# EAGLE library part MM5450 (library opto)
MM5450: LED display driver (Micrel) 34 outputs, 15mA max, static display (non-multiplexed) Serial data input (3-wire interface)
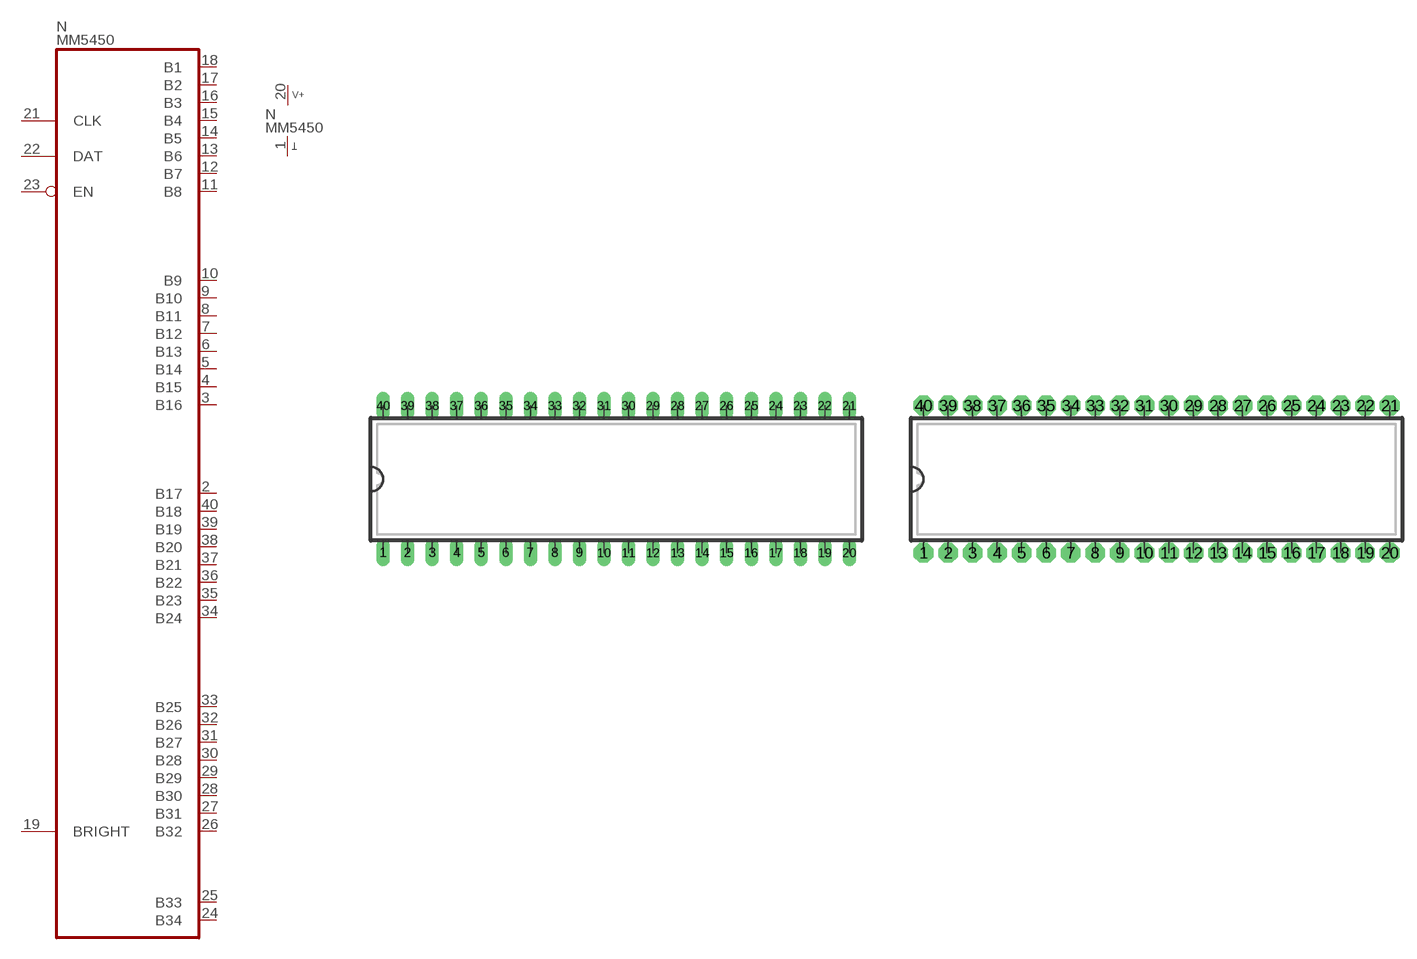
[diagram p6: symbol with the pads of DIP40WL; footprints DIP40WL, DIP40WN]

Designator prefix N; gates  =MM5450 P=V+GND

## MM5450  [DIP40WL]
1  P:VGND  pwr
2   :B17  out
3   :B16  out
4   :B15  out
5   :B14  out
6   :B13  out
7   :B12  out
8   :B11  out
9   :B10  out
10   :B9  out
11   :B8  out
12   :B7  out
13   :B6  out
14   :B5  out
15   :B4  out
16   :B3  out
17   :B2  out
18   :B1  out
19   :BRIGHT  out
20  P:V+  pwr
21   :CLK  out
22   :DAT  out
23   :EN  out
24   :B34  out
25   :B33  out
26   :B32  out
27   :B31  out
28   :B30  out
29   :B29  out
30   :B28  out
31   :B27  out
32   :B26  out
33   :B25  out
34   :B24  out
35   :B23  out
36   :B22  out
37   :B21  out
38   :B20  out
39   :B19  out
40   :B18  out

## MM5450L  [DIP40WL]
Pads as for DIP40WL

## MM5450N  [DIP40WN]
Pads as for DIP40WL

## MM5450R  [DIP40WR]
Pads as for DIP40WL

## Footprint DIP40WL (pad centres in mm)
DIP-40, long pads Standard IC package, 40 pins
drill 0.813 pad 1.397 long: 1 0,0; 2 2.54,0; 3 5.08,0; 4 7.62,0; 5 10.16,0; 6 12.7,0; 7 15.24,0; 8 17.78,0; 9 20.32,0; 10 22.86,0; 11 25.4,0; 12 27.94,0; 13 30.48,0; 14 33.02,0; 15 35.56,0; 16 38.1,0; 17 40.64,0; 18 43.18,0; 19 45.72,0; 20 48.26,0; 21 48.26,15.24; 22 45.72,15.24; 23 43.18,15.24; 24 40.64,15.24; 25 38.1,15.24; 26 35.56,15.24; 27 33.02,15.24; 28 30.48,15.24; 29 27.94,15.24; 30 25.4,15.24; 31 22.86,15.24; 32 20.32,15.24; 33 17.78,15.24; 34 15.24,15.24; 35 12.7,15.24; 36 10.16,15.24; 37 7.62,15.24; 38 5.08,15.24; 39 2.54,15.24; 40 0,15.24

## Footprint DIP40WN (pad centres in mm)
DIP-40 Standard IC package, 40 pins
drill 0.813 pad 2.032 octagon: 1 0,0; 2 2.54,0; 3 5.08,0; 4 7.62,0; 5 10.16,0; 6 12.7,0; 7 15.24,0; 8 17.78,0; 9 20.32,0; 10 22.86,0; 11 25.4,0; 12 27.94,0; 13 30.48,0; 14 33.02,0; 15 35.56,0; 16 38.1,0; 17 40.64,0; 18 43.18,0; 19 45.72,0; 20 48.26,0; 21 48.26,15.24; 22 45.72,15.24; 23 43.18,15.24; 24 40.64,15.24; 25 38.1,15.24; 26 35.56,15.24; 27 33.02,15.24; 28 30.48,15.24; 29 27.94,15.24; 30 25.4,15.24; 31 22.86,15.24; 32 20.32,15.24; 33 17.78,15.24; 34 15.24,15.24; 35 12.7,15.24; 36 10.16,15.24; 37 7.62,15.24; 38 5.08,15.24; 39 2.54,15.24; 40 0,15.24

## Footprint DIP40WR (pad centres in mm)
DIP-40, reduced pads Standard IC package, 40 pins
drill 0.813 pad 1.397 square: 1 0,0; 2 2.54,0; 3 5.08,0; 4 7.62,0; 5 10.16,0; 6 12.7,0; 7 15.24,0; 8 17.78,0; 9 20.32,0; 10 22.86,0; 11 25.4,0; 12 27.94,0; 13 30.48,0; 14 33.02,0; 15 35.56,0; 16 38.1,0; 17 40.64,0; 18 43.18,0; 19 45.72,0; 20 48.26,0; 21 48.26,15.24; 22 45.72,15.24; 23 43.18,15.24; 24 40.64,15.24; 25 38.1,15.24; 26 35.56,15.24; 27 33.02,15.24; 28 30.48,15.24; 29 27.94,15.24; 30 25.4,15.24; 31 22.86,15.24; 32 20.32,15.24; 33 17.78,15.24; 34 15.24,15.24; 35 12.7,15.24; 36 10.16,15.24; 37 7.62,15.24; 38 5.08,15.24; 39 2.54,15.24; 40 0,15.24